# Altium schematic symbol library HZK_Connectors.SchLib: 16 symbols
Pins are listed as number, name and electrical type; pins without a type are passive.

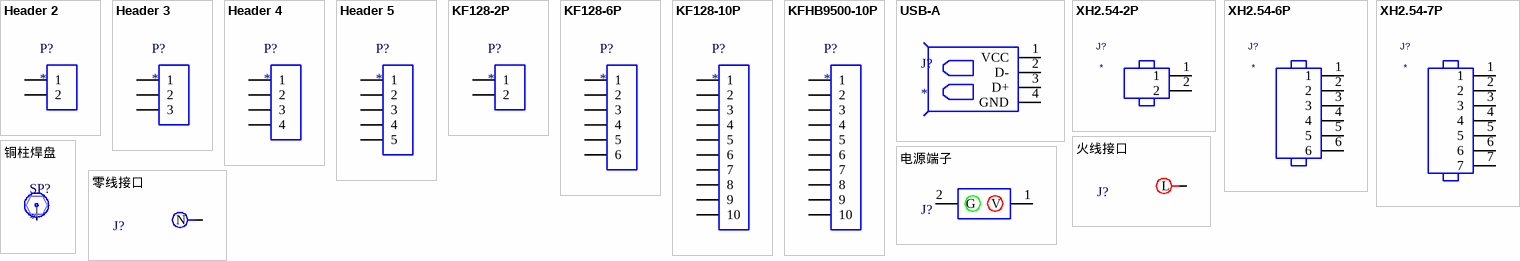
[diagram p0: symbols Header 2 to 零线接口]

## Header 2
designator P?
footprint HDR1X2
pins: 1, 2

## Header 3
designator P?
footprint HDR1X3
pins: 1, 2, 3

## Header 4
designator P?
footprint HDR1X4
footprint HDR1X4-F
pins: 1, 2, 3, 4

## Header 5
designator P?
pins: 1, 2, 3, 4, 5

## KF128-2P
designator P?
螺钉式接线端子，2PIN
footprint KF128-3.81-2P (螺钉式接线端子，脚距3.81mm)
footprint KF128-5.08-2P (螺钉式接线端子，脚距5.08mm)
pins: 1, 2

## KF128-6P
designator P?
螺钉式接线端子，6PIN
footprint KF128-5.08-6P (螺钉式接线端子，脚距5.08mm)
pins: 1, 2, 3, 4, 5, 6

## KF128-10P
designator P?
螺钉式接线端子，10PIN
footprint KF128-5.08-10P (螺钉式接线端子，脚距5.08mm)
pins: 1, 2, 3, 4, 5, 6, 7, 8, 9, 10

## KFHB9500-10P
designator P?
螺钉式接线端子，10PIN
footprint KFHB9500-10P (长：18mm，宽：95.1mm，高：14)
pins: 1, 2, 3, 4, 5, 6, 7, 8, 9, 10

## USB-A
designator J?
footprint USB-A_A (A型卧式直插)
footprint USB-A_B (A型贴片)
footprint USB-A_C (A型立式直插)
pins: 1 VCC, 2 D-, 3 D+, 4 GND

## XH2.54-2P
designator J?
PCB DECAL: XH2.54-5P
footprint XH2.54-LI-2P (接插件，2P)
pins: 1, 2

## XH2.54-6P
designator J?
PCB DECAL: XH2.54-5P
footprint XH2.54-LI-6P (接插件，6P)
pins: 1, 2, 3, 4, 5, 6

## XH2.54-7P
designator J?
PCB DECAL: XH2.54-5P
footprint XH2.54-LI-7P (接插件，7P)
pins: 1, 2, 3, 4, 5, 6, 7

## 火线接口
designator J?  (value not drawn)
footprint 方形铜端子-5*5*6
footprint 方形铜端子-8*8*9
pins: 1 L

## 电源端子
designator J?  (value not drawn)
footprint 电源端子
pins: 1 V, 2 G

## 铜柱焊盘
designator SP?
BOM名称: 铜柱; 版权归属: 源创客; 学习资源: www.ooocke.com
footprint M3-8+6_N (M3铜柱，长：8mm，螺纹长：6mm)
footprint M3-8_N (M3铜柱，长：8mm)
footprint M4 (M4螺丝，外径8mm)
pins: 1

## 零线接口
designator J?  (value not drawn)
footprint 方形铜端子-5*5*6
footprint 方形铜端子-8*8*9
pins: 1 N